# Altium footprint library PCB - CRYSTALS - ABRACON ABLS.PCBLIB: 2 footprints
Each footprint in its own frame and in the unit in brackets; x right, y up, seen from the top. Pads: shape width x height; smd on the part's side, far side on the other; paste and mask are expansions set on the pad; w line width, h text height; cw(c..) or ccw(c..) is an arc to the next point about the centre after c.
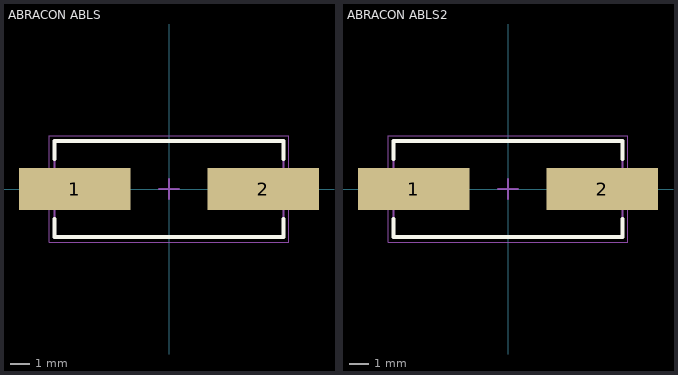
[diagram p0: the footprints below, top view; thin cyan lines are the x and y axes]

## ABRACON ABLS [mm] "Crystal, 2-Leads, Body 4.70x11.40mm, Pitch 8.80mm, IPC Medium Density"
height 4.2
pads (2):
  rect 5.6x2.1 smd: 1(-4.75,0) 2(4.75,0)
Top Overlay:
  lines w0.2: -5.775,-1.5 -5.775,-2.425 5.775,-2.425 5.775,-1.5 ; -5.775,1.5 -5.775,2.425 5.775,2.425 5.775,1.5
Mechanical 13:
  lines w0.1: -5.775,-2.425 5.775,-2.425 5.775,2.425 -5.775,2.425 -5.775,-2.425
Mechanical 15:
  lines w0.05: -6.025,-2.675 6.025,-2.675 6.025,2.675 -6.025,2.675 -6.025,-2.675
  lines w0.1: -0.5,0 0.5,0 ; 0,-0.5 0,0.5
3D body "Abracon ABLS.STEP": height 4.31, standoff 0.1, extent -6.35,-2.35 6.35,2.35

## ABRACON ABLS2 [mm] "Crystal, 2-Leads, Body 4.70x11.40mm, Pitch 8.80mm, IPC Medium Density"
height 3.6
pads (2):
  rect 5.6x2.1 smd: 1(-4.75,0) 2(4.75,0)
Top Overlay:
  lines w0.2: -5.775,-1.5 -5.775,-2.425 5.775,-2.425 5.775,-1.5 ; -5.775,1.5 -5.775,2.425 5.775,2.425 5.775,1.5
Mechanical 13:
  lines w0.1: -5.775,-2.425 5.775,-2.425 5.775,2.425 -5.775,2.425 -5.775,-2.425
Mechanical 15:
  lines w0.05: -6.025,-2.675 6.025,-2.675 6.025,2.675 -6.025,2.675 -6.025,-2.675
  lines w0.1: -0.5,0 0.5,0 ; 0,-0.5 0,0.5
3D body "Abracon ABLS2.STEP": height 3.26, standoff 0, extent -6.35,-2.349 6.35,2.35